# Altium schematic symbol library CAP2220.SchLib: 1 symbol
Pins are listed as number, name and electrical type; pins without a type are passive.

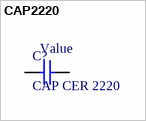
[diagram p0: symbol CAP2220]

## CAP2220
designator C?, comment CAP CER 2220
Ceramic Capacitor 2220 (5750 Metric); Value: Value
footprint CAP2220 (CAP CER 2220)
pins: 1, 2